# Altium schematic symbol library Midas.SchLib: 10 symbols
Pins are listed as number, name and electrical type; pins without a type are passive.

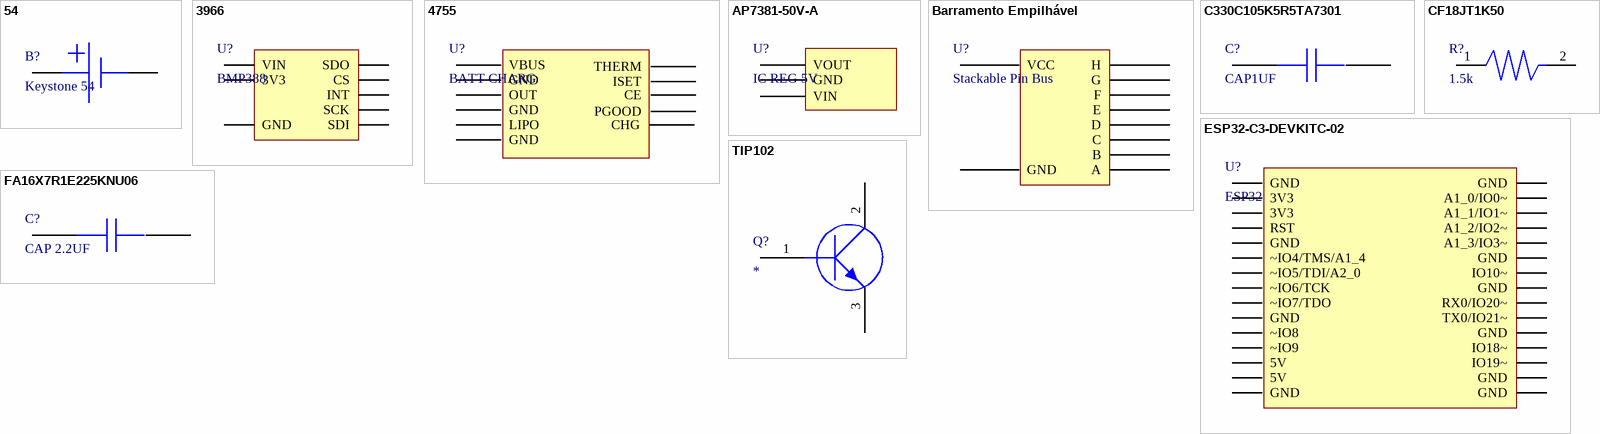
[diagram p0: symbols 54 to TIP102]

## 54
designator B?, comment Keystone 54
Batteries/Accessories / BATT CONT CLIP 18650 1CEL PC PIN; Manufacturer: Keystone Electronics; Manufacturer Part Number: 54; Supplier: Digikey; Supplier Part Number: 36-54-ND; RoHS: Yes; Category: Batteries and Accessories; Stock: 21286; Pricing: 1=0,69, 25=0,5828, 100=0,55, 250=0,51576, 500=0,4587, 1000=0,3893, 2500=0,35554, 5000=0,32854 (USD); ComponentLink1URL: https://datasheet.ciiva.com:443/pdfs/VipMasterIC/IC/KEYC/KEYC-S-A0001371036/KEYC-S-A0001371130-1.pdf?src-supplier=IHS+Markit; ComponentLink1Description: https://datasheet.ciiva.com:443/pdfs/VipMasterIC/IC/KEYC/KEYC-S-A0001371036/KEYC-S-A0001371130-1.pdf?src-supplier=IHS+Markit; ComponentLink2URL: http://www.farnell.com/datasheets/1898890.pdf?src-supplier=Farnell; ComponentLink2Description: http://www.farnell.com/datasheets/1898890.pdf?src-supplier=Farnell; ComponentLink3URL: http://keyelco.com/userAssets/file/M65p11.pdf?src-supplier=Digikey; ComponentLink3Description: http://keyelco.com/userAssets/file/M65p11.pdf?src-supplier=Digikey; ComponentLink4URL: http://www.farnell.com/datasheets/1898890.pdf?src-supplier=Newark; ComponentLink4Description: http://www.farnell.com/datasheets/1898890.pdf?src-supplier=Newark
footprint Keystone 54
pins: 1 POS, 2 NEG

## 3966
designator U?, comment BMP388
Test Lead, Blk, Red, 139.7MM, 500V 3V ~ 5V / Adafruit Industries LLC / BMP388 - Pressure Sensor Evaluation Board / BMP388; Manufacturer Part Number: 3966; Supplier: Digikey; Supplier Part Number: 1528-2733-ND; Manufacturer: Adafruit Industries; RoHS: No; Category: Pressure Sensors; Stock: 21; Pricing: 1=9,95 (USD)
footprint 3966
pins: 1 VIN, 2 3V3, 3 GND, 4 SCK, 5 SDO, 6 SDI, 7 CS, 8 INT

## 4755
designator U?, comment BATT CHARG
Manufacturer: Adafruit Industries; Manufacturer Part Number: 4755; Supplier: Digikey; Supplier Part Number: 1528-4755-ND; RoHS: No; Stock: 308; Pricing: 1=14,95 (USD)
footprint 4755
pins: 1 VBUS, 2 GND, 3 THERM, 4 ISET, 5 CE, 6 PGOOD, 7 CHG, 8 OUT, 9 GND, 10 LIPO, 11 GND

## AP7381-50V-A
designator U?, comment IC REG 5V
Fixed Positive LDO Regulator; Manufacturer: Diodes; Manufacturer Part Number: AP7381-50V-A; Regulator Type: FIXED POSITIVE SINGLE OUTPUT LDO REGULATOR; Time @ Peak Reflow Temperature-Max (s): 30s; Supplier: Digikey; Supplier Part Number: AP7381-50V-ADICT-ND; RoHS: Yes; Stock: 6439; Pricing: 1=0,46, 10=0,374, 25=0,3424, 100=0,2547, 250=0,2308, 500=0,19102, 1000=0,14326 (USD); Peak Reflow Temperature (Cel): 260°C; Reach SVHC Compliant: Yes; RoHS Compliant: Yes; ComponentLink1URL: https://datasheet.ciiva.com:443/pdfs/VipMasterIC/IC/DIOD/DIOD-S-A0009691348/DIOD-S-A0009865550-1.pdf?src-supplier=IHS+Markit; ComponentLink1Description: https://datasheet.ciiva.com:443/pdfs/VipMasterIC/IC/DIOD/DIOD-S-A0009691348/DIOD-S-A0009865550-1.pdf?src-supplier=IHS+Markit; ComponentLink2URL: https://www.diodes.com/assets/Datasheets/AP7381.pdf?src-supplier=Digikey; ComponentLink2Description: https://www.diodes.com/assets/Datasheets/AP7381.pdf?src-supplier=Digikey
footprint AP7381-50V-A
pins: 1 VOUT, 2 GND, 3 VIN

## Barramento Empilhável
designator U?, comment Stackable Pin Bus
10 pinos, Passo 2.54mm, Dimensões da barra 26x2x8mm
footprint STACKABLE_PIN_BUS
pins: 1 VCC, 2 GND, 3 A, 4 B, 5 C, 6 D, 7 E, 8 F, 9 G, 10 H

## C330C105K5R5TA7301
designator C?, comment CAP1UF
Ceramic Capacitor, Multilayer, Ceramic, 50V, 10% +Tol, 10% -Tol, X7R, 15% TC, 1uF, Through Hole Mount; Manufacturer: KEMET; Manufacturer Part Number: C330C105K5R5TA7301; Multilayer: Yes; Supplier: Digikey; Supplier Part Number: 399-9886-1-ND; RoHS: Yes; Category: Ceramic Capacitors; Stock: 95810; Pricing: 1=0,48, 10=0,322, 50=0,2562, 100=0,2115, 500=0,16524 (USD); Mounting Technology: Through Hole; Pins: 2; Dielectric Material: Ceramic; Package Shape: Rectangular; Case/Package: 3015; Terminal Finish: Nickel; Min Operating Temperature: -55°C; Max Operating Temperature: 125°C; JESD-609 Code: e3; Value: 1uF; Capacitor Type: Ceramic; Tolerance  (fill in as +-): 10%; Package Style: RadialMeter; Packaging: Tape and Reel; Tolerance (fill in as +-): 10%; Rated DC Voltage (URdc): 50V; Temperature Characteristics Code: X7R; Termination: Wire; Length: 7.62mm; Width: 3.81mm; Height: 9.14mm; Terminal Pitch: 5.08mm; Reach SVHC Compliant: Yes; RoHS Compliant: Yes; ComponentLink1URL: https://datasheet.ciiva.com:443/pdfs/VipMasterIC/IC/KEME/KEME-S-A0009782347/KEME-S-A0009782347-1.pdf?src-supplier=IHS+Markit; ComponentLink1Description: https://datasheet.ciiva.com:443/pdfs/VipMasterIC/IC/KEME/KEME-S-A0009782347/KEME-S-A0009782347-1.pdf?src-supplier=IHS+Markit; ComponentLink2URL: https://datasheet.ciiva.com/6278/f3101-goldmax-6278031.pdf?src-supplier=Digikey; ComponentLink2Description: https://datasheet.ciiva.com/6278/f3101-goldmax-6278031.pdf?src-supplier=Digikey
footprint C330C105K5R5TA7301
pins: 1, 2

## CF18JT1K50
designator R?, comment 1.5k
footprint CF18JT1K50
pins: 1, 2

## ESP32-C3-DEVKITC-02
designator U?, comment ESP32
Manufacturer: Espressif Systems; Manufacturer Part Number: ESP32-C3-DEVKITC-02; Supplier: Digikey; Supplier Part Number: 1965-ESP32-C3-DEVKITC-02-ND; RoHS: No; Category: RF Semiconductors and Devices; Stock: 1074; Pricing: 1=8 (USD)
footprint ESP32
footprint ESP32
pins: 1 GND, 2 3V3, 3 3V3, 4 RST, 5 GND, 6 ~IO4/TMS/A1_4, 7 ~IO5/TDI/A2_0, 8 ~IO6/TCK, 9 ~IO7/TDO, 10 GND, 11 ~IO8, 12 ~IO9, 13 5V, 14 5V, 15 GND, 16 GND, 17 GND, 18 IO19~, 19 IO18~, 20 GND, 21 TX0/IO21~, 22 RX0/IO20~, 23 GND, 24 IO10~, 25 GND, 26 A1_3/IO3~, 27 A1_2/IO2~, 28 A1_1/IO1~, 29 A1_0/IO0~, 30 GND

## FA16X7R1E225KNU06
designator C?, comment CAP 2.2UF
Ceramic Capacitor, Multilayer, Ceramic, 25V, 10% +Tol, 10% -Tol, X7R, 15% TC, 2.2uF, Through Hole Mount; Manufacturer: TDK; Manufacturer Part Number: FA16X7R1E225KNU06; Supplier: Digikey; Supplier Part Number: 445-180433-1-ND; RoHS: Yes; Category: Ceramic Capacitors; Stock: 7883; Pricing: 1=0,5, 10=0,332, 50=0,2448, 100=0,1993, 500=0,15736, 1000=0,13288 (USD); Pins: 2; Dielectric Material: Ceramic; Capacitor Type: Ceramic; Reach SVHC Compliant: Yes; RoHS Compliant: Yes; ComponentLink1URL: https://datasheet.ciiva.com:443/pdfs/VipMasterIC/IC/TDKC/TDKC-S-A0009903855/TDKC-S-A0009903855-1.pdf?src-supplier=IHS+Markit; ComponentLink1Description: https://datasheet.ciiva.com:443/pdfs/VipMasterIC/IC/TDKC/TDKC-S-A0009903855/TDKC-S-A0009903855-1.pdf?src-supplier=IHS+Markit; ComponentLink2URL: https://product.tdk.com/info/en/catalog/datasheets/leadmlcc_halogenfree_fa_en.pdf?src-supplier=Digikey; ComponentLink2Description: https://product.tdk.com/info/en/catalog/datasheets/leadmlcc_halogenfree_fa_en.pdf?src-supplier=Digikey
footprint FA16X7R1E225KNU06
pins: 1, 2

## TIP102
designator Q?
footprint ONSC-TO-220-3-221A-09 (FM, 3-Leads, Body 10.3x4.85mm, Pitch 2.54mm)
pins: 1 B, 2 C, 3 E